# Altium integrated library Xilinx XC18V00.IntLib: 20 symbols (part 1 of 2)
Pins are listed as number, name and electrical type; pins without a type are passive.

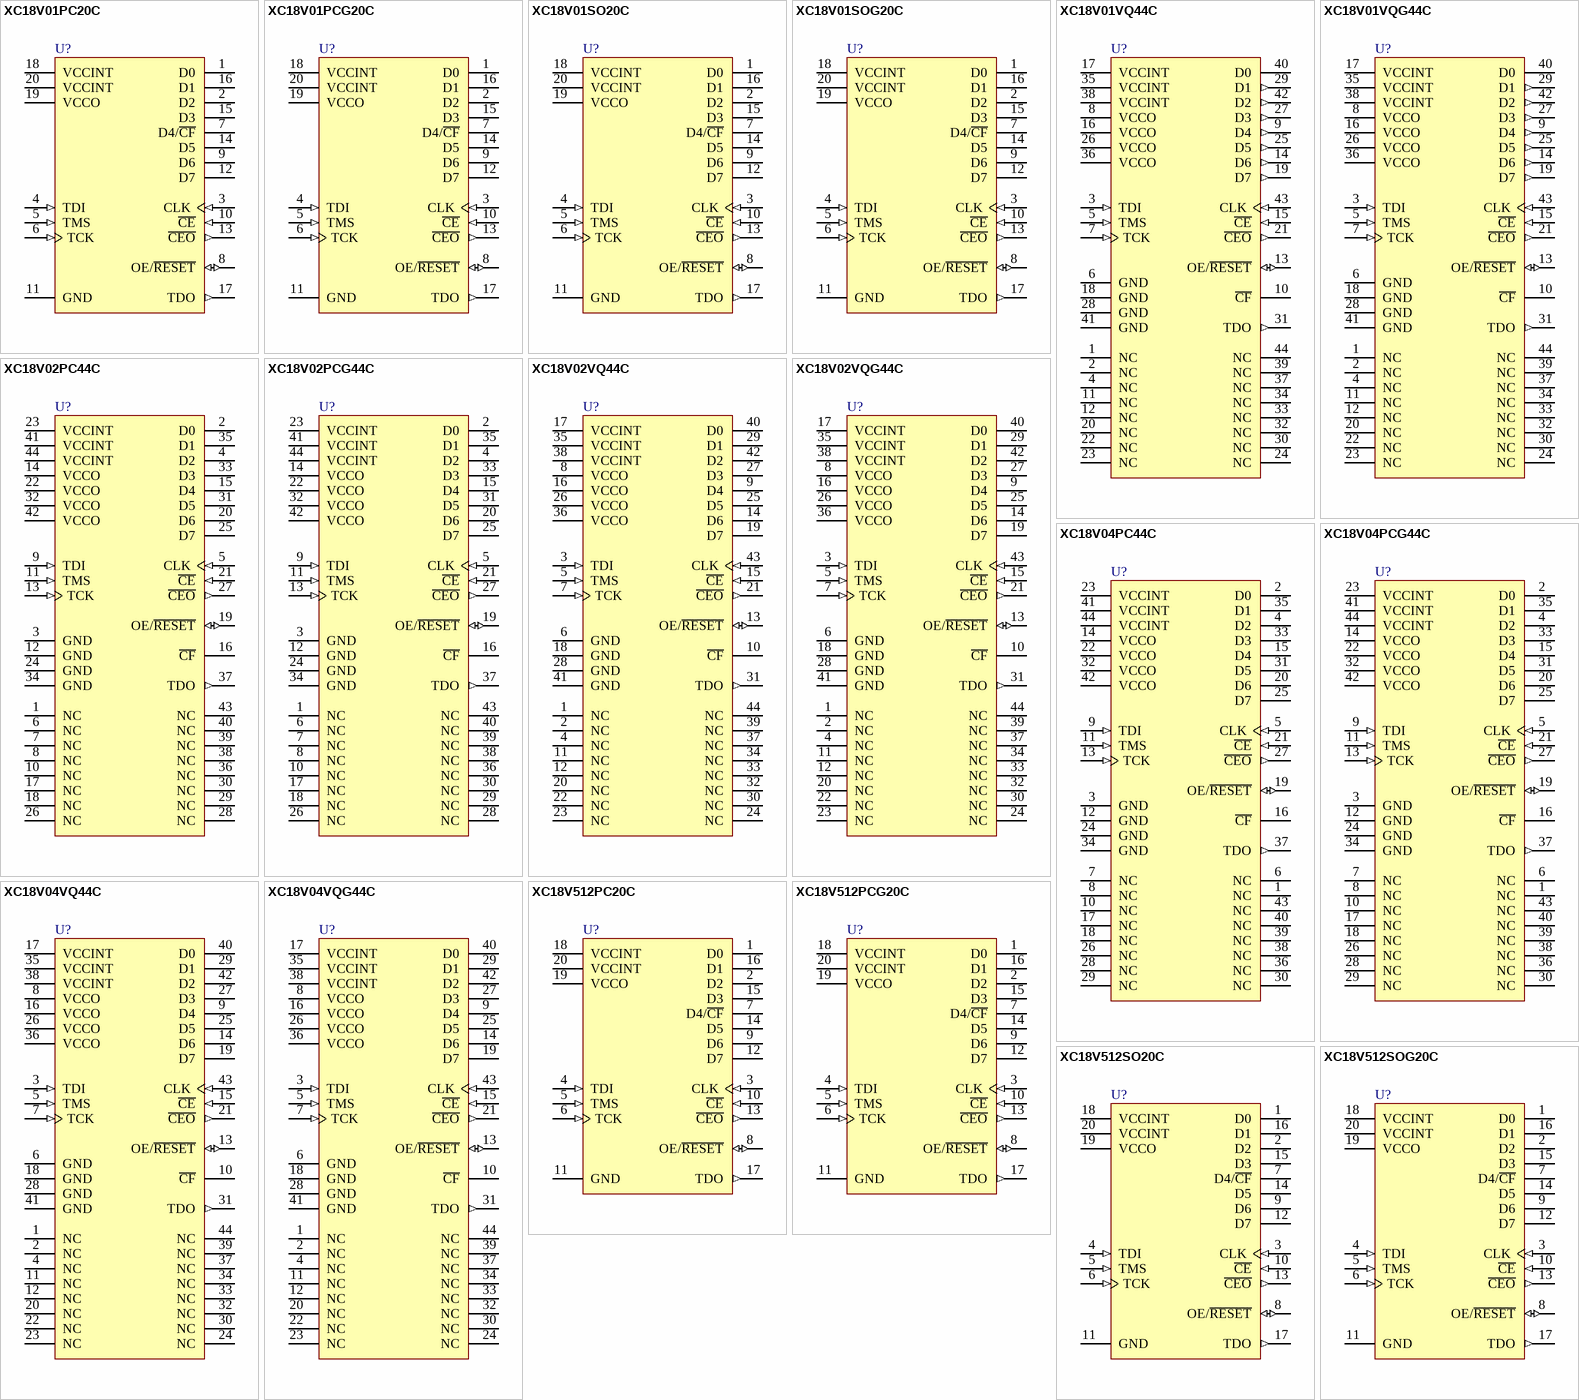
[diagram p0: symbols XC18V01PC20C to XC18V512SOG20C]

## XC18V01PC20C
designator U?
XC18V00 Series, In-System Programmable Configuration 3.3V PROM, 20-Pin PLCC, 1-Megabit, Commercial Grade; Note: For devices with IDCODES 0503x093h VCCINT pin 20 is a no connect (NC) pin.; DatasheetVersion: ver5.2, Jan-2008; PackageVersion: ver1.2, Jun-2004; PackageReference: PC20; PackageDescription: 20-Pin Plastic Leaded Chip Carrier (PC20); Code_JEDEC: MS-047; Code_IPC: PLCC-20; ComponentLink1Description: Manufacturer URL; ComponentLink1URL: http://www.xilinx.com/; ComponentLink2Description: XC18V00 Series Datasheet; ComponentLink2URL: http://www.xilinx.com/support/documentation/data_sheets/ds026.pdf; ComponentLink3Description: PC20 Package Drawing; ComponentLink3URL: http://www.xilinx.com/support/documentation/package_specs/pc20.pdf; ComponentLink4Description: Configuration PROM Documents; ComponentLink4URL: http://www.xilinx.com/support/documentation/configuration_proms.htm
footprint PC20_N (Leaded Chip Carrier, 20-Leads, Body 9x9mm, Pitch 1.27mm, IPC Medium Density)
footprint PC20_L (Leaded Chip Carrier, 20-Leads, Body 9x9mm, Pitch 1.27mm, IPC High Density)
footprint PC20_M (Leaded Chip Carrier, 20-Leads, Body 9x9mm, Pitch 1.27mm, IPC Low Density)
pins: 1 D0 (hiz) "Data Output pin for configuring a Xilinx FPGA in serial mode.", 2 D2 (hiz) "Data Output pin for configuring a Xilinx FPGA in Slave-Parallel/SelectMap mode.", 3 CLK (in) "Configuration Clock Input.", 4 TDI (in) "JTAG Serial Data Input.", 5 TMS (in) "JTAG Mode Select Input.", 6 TCK (in) "JTAG Test Clock Input.", 7 D4/~{CF} (hiz) "Data Output pin / Configuration Pulse.", 8 OE/~{RESET} (io) "Output Enable/Reset (Open-Drain I/O).", 9 D6 (hiz) "Data Output pin for configuring a Xilinx FPGA in Slave-Parallel/SelectMap mode.", 10 ~{CE} (in) "Chip Enable Input.", 11 GND (power) "Ground", 12 D7 (hiz) "Data Output pin for configuring a Xilinx FPGA in Slave-Parallel/SelectMap mode.", 13 ~{CEO} (out) "Chip Enable Output, connects to the CE input of the next PROM in the chain.", 14 D5 (hiz) "Data Output pin for configuring a Xilinx FPGA in Slave-Parallel/SelectMap mode.", 15 D3 (hiz) "Data Output pin for configuring a Xilinx FPGA in Slave-Parallel/SelectMap mode.", 16 D1 (hiz) "Data Output pin for configuring a Xilinx FPGA in Slave-Parallel/SelectMap mode.", 17 TDO (out) "JTAG Serial Data Output.", 18 VCCINT (power) "+3.3V supply for internal logic.", 19 VCCO (power) "+3.3V or +2.5V supply voltage.", 20 VCCINT (power) "+3.3V supply for internal logic."

## XC18V01PCG20C
designator U?
XC18V00 Series, In-System Programmable Configuration 3.3V PROM, 20-Pin PLCC, 1-Megabit, Commercial Grade, Pb-Free; Note: For devices with IDCODES 0503x093h VCCINT pin 20 is a no connect (NC) pin.; DatasheetVersion: ver5.2, Jan-2008; PackageVersion: ver1.2, Jun-2004; PackageReference: PCG20; PackageDescription: 20-Pin Plastic Leaded Chip Carrier (PCG20) - Pb-Free; Code_JEDEC: MS-047; Code_IPC: PLCC-20; ComponentLink1Description: Manufacturer URL; ComponentLink1URL: http://www.xilinx.com/; ComponentLink2Description: XC18V00 Series Datasheet; ComponentLink2URL: http://www.xilinx.com/support/documentation/data_sheets/ds026.pdf; ComponentLink3Description: PCG20 Package Drawing; ComponentLink3URL: http://www.xilinx.com/support/documentation/package_specs/pc20.pdf; ComponentLink4Description: Configuration PROM Documents; ComponentLink4URL: http://www.xilinx.com/support/documentation/configuration_proms.htm
footprint PCG20_N (Leaded Chip Carrier, 20-Leads, Body 9x9mm, Pitch 1.27mm, IPC Medium Density)
footprint PCG20_L (Leaded Chip Carrier, 20-Leads, Body 9x9mm, Pitch 1.27mm, IPC High Density)
footprint PCG20_M (Leaded Chip Carrier, 20-Leads, Body 9x9mm, Pitch 1.27mm, IPC Low Density)
pins: 1 D0 (hiz) "Data Output pin for configuring a Xilinx FPGA in serial mode.", 2 D2 (hiz) "Data Output pin for configuring a Xilinx FPGA in Slave-Parallel/SelectMap mode.", 3 CLK (in) "Configuration Clock Input.", 4 TDI (in) "JTAG Serial Data Input.", 5 TMS (in) "JTAG Mode Select Input.", 6 TCK (in) "JTAG Test Clock Input.", 7 D4/~{CF} (hiz) "Data Output pin / Configuration Pulse.", 8 OE/~{RESET} (io) "Output Enable/Reset (Open-Drain I/O).", 9 D6 (hiz) "Data Output pin for configuring a Xilinx FPGA in Slave-Parallel/SelectMap mode.", 10 ~{CE} (in) "Chip Enable Input.", 11 GND (power) "Ground", 12 D7 (hiz) "Data Output pin for configuring a Xilinx FPGA in Slave-Parallel/SelectMap mode.", 13 ~{CEO} (out) "Chip Enable Output, connects to the CE input of the next PROM in the chain.", 14 D5 (hiz) "Data Output pin for configuring a Xilinx FPGA in Slave-Parallel/SelectMap mode.", 15 D3 (hiz) "Data Output pin for configuring a Xilinx FPGA in Slave-Parallel/SelectMap mode.", 16 D1 (hiz) "Data Output pin for configuring a Xilinx FPGA in Slave-Parallel/SelectMap mode.", 17 TDO (out) "JTAG Serial Data Output.", 18 VCCINT (power) "+3.3V supply for internal logic.", 19 VCCO (power) "+3.3V or +2.5V supply voltage.", 20 VCCINT (power) "+3.3V supply for internal logic."

## XC18V01SO20C
designator U?
XC18V00 Series, In-System Programmable Configuration 3.3V PROM, 20-Pin SOIC, 1-Megabit, Commercial Grade; Note: For devices with IDCODES 0503x093h VCCINT pin 20 is a no connect (NC) pin.; DatasheetVersion: ver5.2, Jan-2008; PackageVersion: ver1.0, Jun-2000; PackageReference: SO20; PackageDescription: 20-Pin Small Outline Package (SO20); Code_JEDEC: MS-013-AC; ComponentLink1Description: Manufacturer URL; ComponentLink1URL: http://www.xilinx.com/; ComponentLink2Description: XC18V00 Series Datasheet; ComponentLink2URL: http://www.xilinx.com/support/documentation/data_sheets/ds026.pdf; ComponentLink3Description: SO20 Package Drawing; ComponentLink3URL: http://www.xilinx.com/support/documentation/package_specs/so20.pdf; ComponentLink4Description: Configuration PROM Documents; ComponentLink4URL: http://www.xilinx.com/support/documentation/configuration_proms.htm
footprint SO20_N (SOIC, 20-Leads, Body 12.8x7.5mm, Pitch 1.27mm, IPC Medium Density)
footprint SO20_L (SOIC, 20-Leads, Body 12.8x7.5mm, Pitch 1.27mm, IPC High Density)
footprint SO20_M (SOIC, 20-Leads, Body 12.8x7.5mm, Pitch 1.27mm, IPC Low Density)
pins: 1 D0 (hiz) "Data Output pin for configuring a Xilinx FPGA in serial mode.", 2 D2 (hiz) "Data Output pin for configuring a Xilinx FPGA in Slave-Parallel/SelectMap mode.", 3 CLK (in) "Configuration Clock Input.", 4 TDI (in) "JTAG Serial Data Input.", 5 TMS (in) "JTAG Mode Select Input.", 6 TCK (in) "JTAG Test Clock Input.", 7 D4/~{CF} (hiz) "Data Output / Configuration Pulse.", 8 OE/~{RESET} (io) "Output Enable/Reset (Open-Drain I/O).", 9 D6 (hiz) "Data Output pin for configuring a Xilinx FPGA in Slave-Parallel/SelectMap mode.", 10 ~{CE} (in) "Chip Enable Input.", 11 GND (power) "Ground", 12 D7 (hiz) "Data Output pin for configuring a Xilinx FPGA in Slave-Parallel/SelectMap mode.", 13 ~{CEO} (out) "Chip Enable Output, connects to the CE input of the next PROM in the chain.", 14 D5 (hiz) "Data Output pin for configuring a Xilinx FPGA in Slave-Parallel/SelectMap mode.", 15 D3 (hiz) "Data Output pin for configuring a Xilinx FPGA in Slave-Parallel/SelectMap mode.", 16 D1 (hiz) "Data Output pin for configuring a Xilinx FPGA in Slave-Parallel/SelectMap mode.", 17 TDO (out) "JTAG Serial Data Output.", 18 VCCINT (power) "+3.3V supply for internal logic.", 19 VCCO (power) "+3.3V or +2.5V supply voltage.", 20 VCCINT (power) "+3.3V supply for internal logic."

## XC18V01SOG20C
designator U?
XC18V00 Series, In-System Programmable Configuration 3.3V PROM, 20-Pin SOIC, 1-Megabit, Commercial Grade, Pb-Free; Note: For devices with IDCODES 0503x093h VCCINT pin 20 is a no connect (NC) pin.; DatasheetVersion: ver5.2, Jan-2008; PackageVersion: ver1.0, Jun-2000; PackageReference: SOG20; PackageDescription: 20-Pin Small Outline Package (SOG20) - Pb-Free; Code_JEDEC: MS-013-AC; ComponentLink1Description: Manufacturer URL; ComponentLink1URL: http://www.xilinx.com/; ComponentLink2Description: XC18V00 Series Datasheet; ComponentLink2URL: http://www.xilinx.com/support/documentation/data_sheets/ds026.pdf; ComponentLink3Description: SOG20 Package Drawing; ComponentLink3URL: http://www.xilinx.com/support/documentation/package_specs/so20.pdf; ComponentLink4Description: Configuration PROM Documents; ComponentLink4URL: http://www.xilinx.com/support/documentation/configuration_proms.htm
footprint SOG20_N (SOIC, 20-Leads, Body 12.8x7.5mm, Pitch 1.27mm, IPC Medium Density)
footprint SOG20_L (SOIC, 20-Leads, Body 12.8x7.5mm, Pitch 1.27mm, IPC High Density)
footprint SOG20_M (SOIC, 20-Leads, Body 12.8x7.5mm, Pitch 1.27mm, IPC Low Density)
pins: 1 D0 (hiz) "Data Output pin for configuring a Xilinx FPGA in serial mode.", 2 D2 (hiz) "Data Output pin for configuring a Xilinx FPGA in Slave-Parallel/SelectMap mode.", 3 CLK (in) "Configuration Clock Input.", 4 TDI (in) "JTAG Serial Data Input.", 5 TMS (in) "JTAG Mode Select Input.", 6 TCK (in) "JTAG Test Clock Input.", 7 D4/~{CF} (hiz) "Data Output / Configuration Pulse.", 8 OE/~{RESET} (io) "Output Enable/Reset (Open-Drain I/O).", 9 D6 (hiz) "Data Output pin for configuring a Xilinx FPGA in Slave-Parallel/SelectMap mode.", 10 ~{CE} (in) "Chip Enable Input.", 11 GND (power) "Ground", 12 D7 (hiz) "Data Output pin for configuring a Xilinx FPGA in Slave-Parallel/SelectMap mode.", 13 ~{CEO} (out) "Chip Enable Output, connects to the CE input of the next PROM in the chain.", 14 D5 (hiz) "Data Output pin for configuring a Xilinx FPGA in Slave-Parallel/SelectMap mode.", 15 D3 (hiz) "Data Output pin for configuring a Xilinx FPGA in Slave-Parallel/SelectMap mode.", 16 D1 (hiz) "Data Output pin for configuring a Xilinx FPGA in Slave-Parallel/SelectMap mode.", 17 TDO (out) "JTAG Serial Data Output.", 18 VCCINT (power) "+3.3V supply for internal logic.", 19 VCCO (power) "+3.3V or +2.5V supply voltage.", 20 VCCINT (power) "+3.3V supply for internal logic."

## XC18V01VQ44C
designator U?
XC18V00 Series, In-System Programmable Configuration 3.3V PROM, 44-Pin VQFP, 1-Megabit, Commercial Grade; Note: For devices with IDCODES 0503x093h VCCINT pin 38 is a no connect (NC) pin.; DatasheetVersion: ver5.2, Jan-2008; PackageVersion: ver1.2, Jun-2004; PackageReference: VQ44; PackageDescription: 44-Pin Very Thin Quad Flat Pack (VQ44); Code_JEDEC: MS-026-ACB; ComponentLink1Description: Manufacturer URL; ComponentLink1URL: http://www.xilinx.com/; ComponentLink2Description: XC18V00 Series Datasheet; ComponentLink2URL: http://www.xilinx.com/support/documentation/data_sheets/ds026.pdf; ComponentLink3Description: VQ44 Package Drawing; ComponentLink3URL: http://www.xilinx.com/support/documentation/package_specs/vq44.pdf; ComponentLink4Description: Configuration PROM Documents; ComponentLink4URL: http://www.xilinx.com/support/documentation/configuration_proms.htm
footprint VQ44_N (Thin QFP, 44-Leads, Body 10x10mm, Pitch 0.8mm, IPC Medium Density)
footprint VQ44_L (Thin QFP, 44-Leads, Body 10x10mm, Pitch 0.8mm, IPC High Density)
footprint VQ44_M (Thin QFP, 44-Leads, Body 10x10mm, Pitch 0.8mm, IPC Low Density)
pins: 1 NC "No Connect", 2 NC "No Connect", 3 TDI (in) "JTAG Serial Data Input.", 4 NC "No Connect", 5 TMS (in) "JTAG Mode Select Input.", 6 GND (power) "Ground", 7 TCK (in) "JTAG Test Clock Input.", 8 VCCO (power) "+3.3V or +2.5V supply voltage.", 9 D4 (out) "Data Output pin for configuring a Xilinx FPGA in Slave-Parallel/SelectMap mode.", 10 ~{CF} (oc) "Configuration Pulse (Open-Drain Output).", 11 NC "No Connect", 12 NC "No Connect", 13 OE/~{RESET} (io) "Output Enable/Reset (Open-Drain I/O).", 14 D6 (out) "Data Output pin for configuring a Xilinx FPGA in Slave-Parallel/SelectMap mode.", 15 ~{CE} (in) "Chip Enable Input.", 16 VCCO (power) "+3.3V or +2.5V supply voltage.", 17 VCCINT (power) "+3.3V supply for internal logic.", 18 GND (power) "Ground", 19 D7 (out) "Data Output pin for configuring a Xilinx FPGA in Slave-Parallel/SelectMap mode.", 20 NC "No Connect", 21 ~{CEO} (out) "Chip Enable Output, connects to the CE input of the next PROM in the chain.", 22 NC "No Connect", 23 NC "No Connect", 24 NC "No Connect", 25 D5 (out) "Data Output pin for configuring a Xilinx FPGA in Slave-Parallel/SelectMap mode.", 26 VCCO (power) "+3.3V or +2.5V supply voltage.", 27 D3 (out) "Data Output pin for configuring a Xilinx FPGA in Slave-Parallel/SelectMap mode.", 28 GND (power) "Ground", 29 D1 (out) "Data Output pin for configuring a Xilinx FPGA in Slave-Parallel/SelectMap mode.", 30 NC "No Connect", 31 TDO (out) "JTAG Serial Data Output.", 32 NC "No Connect", 33 NC "No Connect", 34 NC "No Connect", 35 VCCINT (power) "+3.3V supply for internal logic.", 36 VCCO (power) "+3.3V or +2.5V supply voltage.", 37 NC "No Connect", 38 VCCINT (power) "+3.3V supply for internal logic.", 39 NC "No Connect", 40 D0 (hiz) "Data Output pin for configuring a Xilinx FPGA in serial mode.", 41 GND (power) "Ground", 42 D2 (out) "Data Output pin for configuring a Xilinx FPGA in Slave-Parallel/SelectMap mode.", 43 CLK (in) "Configuration Clock Input.", 44 NC "No Connect"

## XC18V01VQG44C
designator U?
XC18V00 Series, In-System Programmable Configuration 3.3V PROM, 44-Pin VQFP, 1-Megabit, Commercial Grade, Pb-Free; Note: For devices with IDCODES 0503x093h VCCINT pin 38 is a no connect (NC) pin.; DatasheetVersion: ver5.2, Jan-2008; PackageVersion: ver1.2, Jun-2004; PackageReference: VQG44; PackageDescription: 44-Pin Very Thin Quad Flat Pack (VQG44) - Pb-Free; Code_JEDEC: MS-026-ACB; ComponentLink1Description: Manufacturer URL; ComponentLink1URL: http://www.xilinx.com/; ComponentLink2Description: XC18V00 Series Datasheet; ComponentLink2URL: http://www.xilinx.com/support/documentation/data_sheets/ds026.pdf; ComponentLink3Description: VQG44 Package Drawing; ComponentLink3URL: http://www.xilinx.com/support/documentation/package_specs/vq44.pdf; ComponentLink4Description: Configuration PROM Documents; ComponentLink4URL: http://www.xilinx.com/support/documentation/configuration_proms.htm
footprint VQG44_N (Thin QFP, 44-Leads, Body 10x10mm, Pitch 0.8mm, IPC Medium Density)
footprint VQG44_L (Thin QFP, 44-Leads, Body 10x10mm, Pitch 0.8mm, IPC High Density)
footprint VQG44_M (Thin QFP, 44-Leads, Body 10x10mm, Pitch 0.8mm, IPC Low Density)
pins: 1 NC "No Connect", 2 NC "No Connect", 3 TDI (in) "JTAG Serial Data Input.", 4 NC "No Connect", 5 TMS (in) "JTAG Mode Select Input.", 6 GND (power) "Ground", 7 TCK (in) "JTAG Test Clock Input.", 8 VCCO (power) "+3.3V or +2.5V supply voltage.", 9 D4 (out) "Data Output pin for configuring a Xilinx FPGA in Slave-Parallel/SelectMap mode.", 10 ~{CF} (oc) "Configuration Pulse (Open-Drain Output).", 11 NC "No Connect", 12 NC "No Connect", 13 OE/~{RESET} (io) "Output Enable/Reset (Open-Drain I/O).", 14 D6 (out) "Data Output pin for configuring a Xilinx FPGA in Slave-Parallel/SelectMap mode.", 15 ~{CE} (in) "Chip Enable Input.", 16 VCCO (power) "+3.3V or +2.5V supply voltage.", 17 VCCINT (power) "+3.3V supply for internal logic.", 18 GND (power) "Ground", 19 D7 (out) "Data Output pin for configuring a Xilinx FPGA in Slave-Parallel/SelectMap mode.", 20 NC "No Connect", 21 ~{CEO} (out) "Chip Enable Output, connects to the CE input of the next PROM in the chain.", 22 NC "No Connect", 23 NC "No Connect", 24 NC "No Connect", 25 D5 (out) "Data Output pin for configuring a Xilinx FPGA in Slave-Parallel/SelectMap mode.", 26 VCCO (power) "+3.3V or +2.5V supply voltage.", 27 D3 (out) "Data Output pin for configuring a Xilinx FPGA in Slave-Parallel/SelectMap mode.", 28 GND (power) "Ground", 29 D1 (out) "Data Output pin for configuring a Xilinx FPGA in Slave-Parallel/SelectMap mode.", 30 NC "No Connect", 31 TDO (out) "JTAG Serial Data Output.", 32 NC "No Connect", 33 NC "No Connect", 34 NC "No Connect", 35 VCCINT (power) "+3.3V supply for internal logic.", 36 VCCO (power) "+3.3V or +2.5V supply voltage.", 37 NC "No Connect", 38 VCCINT (power) "+3.3V supply for internal logic.", 39 NC "No Connect", 40 D0 (hiz) "Data Output pin for configuring a Xilinx FPGA in serial mode.", 41 GND (power) "Ground", 42 D2 (out) "Data Output pin for configuring a Xilinx FPGA in Slave-Parallel/SelectMap mode.", 43 CLK (in) "Configuration Clock Input.", 44 NC "No Connect"

## XC18V02PC44C
designator U?
XC18V00 Series, In-System Programmable Configuration 3.3V PROM, 44-Pin PLCC, 2-Megabit, Commercial Grade; Note: For devices with IDCODES 0503x093h VCCINT pin 44 is a no connect (NC) pin.; DatasheetVersion: ver5.2, Jan-2008; PackageVersion: ver1.2, Jun-2004; PackageReference: PC44; PackageDescription: 44-Pin Plastic Leaded Chip Carrier (PC44); Code_JEDEC: MS-047; Code_IPC: PLCC-44; ComponentLink1Description: Manufacturer URL; ComponentLink1URL: http://www.xilinx.com/; ComponentLink2Description: XC18V00 Series Datasheet; ComponentLink2URL: http://www.xilinx.com/support/documentation/data_sheets/ds026.pdf; ComponentLink3Description: PC44 Package Drawing; ComponentLink3URL: http://www.xilinx.com/support/documentation/package_specs/pc44.pdf; ComponentLink4Description: Configuration PROM Documents; ComponentLink4URL: http://www.xilinx.com/support/documentation/configuration_proms.htm
footprint PC44_N (Leaded Chip Carrier, 44-Leads, Body 16.6x16.6mm, Pitch 1.27mm, IPC Medium Density)
footprint PC44_L (Leaded Chip Carrier, 44-Leads, Body 16.6x16.6mm, Pitch 1.27mm, IPC High Density)
footprint PC44_M (Leaded Chip Carrier, 44-Leads, Body 16.6x16.6mm, Pitch 1.27mm, IPC Low Density)
pins: 1 NC "No Connect", 2 D0 (hiz) "Data Output pin for configuring a Xilinx FPGA in serial mode.", 3 GND (power) "Ground", 4 D2 (hiz) "Data Output pin for configuring a Xilinx FPGA in Slave-Parallel/SelectMap mode.", 5 CLK (in) "Configuration Clock Input.", 6 NC "No Connect", 7 NC "No Connect", 8 NC "No Connect", 9 TDI (in) "JTAG Serial Data Input.", 10 NC "No Connect", 11 TMS (in) "JTAG Mode Select Input.", 12 GND (power) "Ground", 13 TCK (in) "JTAG Test Clock Input.", 14 VCCO (power) "+3.3V or +2.5V supply voltage.", 15 D4 (hiz) "Data Output pin for configuring a Xilinx FPGA in Slave-Parallel/SelectMap mode.", 16 ~{CF} (oc) "Configuration Pulse (Open-Drain Output).", 17 NC "No Connect", 18 NC "No Connect", 19 OE/~{RESET} (io) "Output Enable/Reset (Open-Drain I/O).", 20 D6 (hiz) "Data Output pin for configuring a Xilinx FPGA in Slave-Parallel/SelectMap mode.", 21 ~{CE} (in) "Chip Enable Input.", 22 VCCO (power) "+3.3V or +2.5V supply voltage.", 23 VCCINT (power) "+3.3V supply for internal logic.", 24 GND (power) "Ground", 25 D7 (hiz) "Data Output pin for configuring a Xilinx FPGA in Slave-Parallel/SelectMap mode.", 26 NC "No Connect", 27 ~{CEO} (out) "Chip Enable Output, connects to the CE input of the next PROM in the chain.", 28 NC "No Connect", 29 NC "No Connect", 30 NC "No Connect", 31 D5 (hiz) "Data Output pin for configuring a Xilinx FPGA in Slave-Parallel/SelectMap mode.", 32 VCCO (power) "+3.3V or +2.5V supply voltage.", 33 D3 (hiz) "Data Output pin for configuring a Xilinx FPGA in Slave-Parallel/SelectMap mode.", 34 GND (power) "Ground", 35 D1 (hiz) "Data Output pin for configuring a Xilinx FPGA in Slave-Parallel/SelectMap mode.", 36 NC "No Connect", 37 TDO (out) "JTAG Serial Data Output.", 38 NC "No Connect", 39 NC "No Connect", 40 NC "No Connect", 41 VCCINT (power) "+3.3V supply for internal logic.", 42 VCCO (power) "+3.3V or +2.5V supply voltage.", 43 NC "No Connect", 44 VCCINT (power) "+3.3V supply for internal logic."

## XC18V02PCG44C
designator U?
XC18V00 Series, In-System Programmable Configuration 3.3V PROM, 44-Pin PLCC, 2-Megabit, Commercial Grade, Pb-Free; Note: For devices with IDCODES 0503x093h VCCINT pin 44 is a no connect (NC) pin.; DatasheetVersion: ver5.2, Jan-2008; PackageVersion: ver1.2, Jun-2004; PackageReference: PCG44; PackageDescription: 44-Pin Plastic Leaded Chip Carrier (PCG44) - Pb-Free; Code_JEDEC: MS-047; Code_IPC: PLCC-44; ComponentLink1Description: Manufacturer URL; ComponentLink1URL: http://www.xilinx.com/; ComponentLink2Description: XC18V00 Series Datasheet; ComponentLink2URL: http://www.xilinx.com/support/documentation/data_sheets/ds026.pdf; ComponentLink3Description: PCG44 Package Drawing; ComponentLink3URL: http://www.xilinx.com/support/documentation/package_specs/pc44.pdf; ComponentLink4Description: Configuration PROM Documents; ComponentLink4URL: http://www.xilinx.com/support/documentation/configuration_proms.htm
footprint PCG44_N (Leaded Chip Carrier, 44-Leads, Body 16.6x16.6mm, Pitch 1.27mm, IPC Medium Density)
footprint PCG44_L (Leaded Chip Carrier, 44-Leads, Body 16.6x16.6mm, Pitch 1.27mm, IPC High Density)
footprint PCG44_M (Leaded Chip Carrier, 44-Leads, Body 16.6x16.6mm, Pitch 1.27mm, IPC Low Density)
pins: 1 NC "No Connect", 2 D0 (hiz) "Data Output pin for configuring a Xilinx FPGA in serial mode.", 3 GND (power) "Ground", 4 D2 (hiz) "Data Output pin for configuring a Xilinx FPGA in Slave-Parallel/SelectMap mode.", 5 CLK (in) "Configuration Clock Input.", 6 NC "No Connect", 7 NC "No Connect", 8 NC "No Connect", 9 TDI (in) "JTAG Serial Data Input.", 10 NC "No Connect", 11 TMS (in) "JTAG Mode Select Input.", 12 GND (power) "Ground", 13 TCK (in) "JTAG Test Clock Input.", 14 VCCO (power) "+3.3V or +2.5V supply voltage.", 15 D4 (hiz) "Data Output pin for configuring a Xilinx FPGA in Slave-Parallel/SelectMap mode.", 16 ~{CF} (oc) "Configuration Pulse (Open-Drain Output).", 17 NC "No Connect", 18 NC "No Connect", 19 OE/~{RESET} (io) "Output Enable/Reset (Open-Drain I/O).", 20 D6 (hiz) "Data Output pin for configuring a Xilinx FPGA in Slave-Parallel/SelectMap mode.", 21 ~{CE} (in) "Chip Enable Input.", 22 VCCO (power) "+3.3V or +2.5V supply voltage.", 23 VCCINT (power) "+3.3V supply for internal logic.", 24 GND (power) "Ground", 25 D7 (hiz) "Data Output pin for configuring a Xilinx FPGA in Slave-Parallel/SelectMap mode.", 26 NC "No Connect", 27 ~{CEO} (out) "Chip Enable Output, connects to the CE input of the next PROM in the chain.", 28 NC "No Connect", 29 NC "No Connect", 30 NC "No Connect", 31 D5 (hiz) "Data Output pin for configuring a Xilinx FPGA in Slave-Parallel/SelectMap mode.", 32 VCCO (power) "+3.3V or +2.5V supply voltage.", 33 D3 (hiz) "Data Output pin for configuring a Xilinx FPGA in Slave-Parallel/SelectMap mode.", 34 GND (power) "Ground", 35 D1 (hiz) "Data Output pin for configuring a Xilinx FPGA in Slave-Parallel/SelectMap mode.", 36 NC "No Connect", 37 TDO (out) "JTAG Serial Data Output.", 38 NC "No Connect", 39 NC "No Connect", 40 NC "No Connect", 41 VCCINT (power) "+3.3V supply for internal logic.", 42 VCCO (power) "+3.3V or +2.5V supply voltage.", 43 NC "No Connect", 44 VCCINT (power) "+3.3V supply for internal logic."

## XC18V02VQ44C
designator U?
XC18V00 Series, In-System Programmable Configuration 3.3V PROM, 44-Pin VQFP, 2-Megabit, Commercial Grade; Note: For devices with IDCODES 0503x093h VCCINT pin 38 is a no connect (NC) pin.; DatasheetVersion: ver5.2, Jan-2008; PackageVersion: ver1.2, Jun-2004; PackageReference: VQ44; PackageDescription: 44-Pin Very Thin Quad Flat Pack (VQ44); Code_JEDEC: MS-026-ACB; ComponentLink1Description: Manufacturer URL; ComponentLink1URL: http://www.xilinx.com/; ComponentLink2Description: XC18V00 Series Datasheet; ComponentLink2URL: http://www.xilinx.com/support/documentation/data_sheets/ds026.pdf; ComponentLink3Description: VQ44 Package Drawing; ComponentLink3URL: http://www.xilinx.com/support/documentation/package_specs/vq44.pdf; ComponentLink4Description: Configuration PROM Documents; ComponentLink4URL: http://www.xilinx.com/support/documentation/configuration_proms.htm
footprint VQ44_N (Thin QFP, 44-Leads, Body 10x10mm, Pitch 0.8mm, IPC Medium Density)
footprint VQ44_L (Thin QFP, 44-Leads, Body 10x10mm, Pitch 0.8mm, IPC High Density)
footprint VQ44_M (Thin QFP, 44-Leads, Body 10x10mm, Pitch 0.8mm, IPC Low Density)
pins: 1 NC "No Connect", 2 NC "No Connect", 3 TDI (in) "JTAG Serial Data Input.", 4 NC "No Connect", 5 TMS (in) "JTAG Mode Select Input.", 6 GND (power) "Ground", 7 TCK (in) "JTAG Test Clock Input.", 8 VCCO (power) "+3.3V or +2.5V supply voltage.", 9 D4 (hiz) "Data Output pin for configuring a Xilinx FPGA in Slave-Parallel/SelectMap mode.", 10 ~{CF} (oc) "Configuration Pulse (Open-Drain Output).", 11 NC "No Connect", 12 NC "No Connect", 13 OE/~{RESET} (io) "Output Enable/Reset (Open-Drain I/O).", 14 D6 (hiz) "Data Output pin for configuring a Xilinx FPGA in Slave-Parallel/SelectMap mode.", 15 ~{CE} (in) "Chip Enable Input.", 16 VCCO (power) "+3.3V or +2.5V supply voltage.", 17 VCCINT (power) "+3.3V supply for internal logic.", 18 GND (power) "Ground", 19 D7 (hiz) "Data Output pin for configuring a Xilinx FPGA in Slave-Parallel/SelectMap mode.", 20 NC "No Connect", 21 ~{CEO} (out) "Chip Enable Output, connects to the CE input of the next PROM in the chain.", 22 NC "No Connect", 23 NC "No Connect", 24 NC "No Connect", 25 D5 (hiz) "Data Output pin for configuring a Xilinx FPGA in Slave-Parallel/SelectMap mode.", 26 VCCO (power) "+3.3V or +2.5V supply voltage.", 27 D3 (hiz) "Data Output pin for configuring a Xilinx FPGA in Slave-Parallel/SelectMap mode.", 28 GND (power) "Ground", 29 D1 (hiz) "Data Output pin for configuring a Xilinx FPGA in Slave-Parallel/SelectMap mode.", 30 NC "No Connect", 31 TDO (out) "JTAG Serial Data Output.", 32 NC "No Connect", 33 NC "No Connect", 34 NC "No Connect", 35 VCCINT (power) "+3.3V supply for internal logic.", 36 VCCO (power) "+3.3V or +2.5V supply voltage.", 37 NC "No Connect", 38 VCCINT (power) "+3.3V supply for internal logic.", 39 NC "No Connect", 40 D0 (hiz) "Data Output pin for configuring a Xilinx FPGA in serial mode.", 41 GND (power) "Ground", 42 D2 (hiz) "Data Output pin for configuring a Xilinx FPGA in Slave-Parallel/SelectMap mode.", 43 CLK (in) "Configuration Clock Input.", 44 NC "No Connect"

## XC18V02VQG44C
designator U?
XC18V00 Series, In-System Programmable Configuration 3.3V PROM, 44-Pin VQFP, 2-Megabit, Commercial Grade, Pb-Free; Note: For devices with IDCODES 0503x093h VCCINT pin 38 is a no connect (NC) pin.; DatasheetVersion: ver5.2, Jan-2008; PackageVersion: ver1.2, Jun-2004; PackageReference: VQG44; PackageDescription: 44-Pin Very Thin Quad Flat Pack (VQG44) - Pb-Free; Code_JEDEC: MS-026-ACB; ComponentLink1Description: Manufacturer URL; ComponentLink1URL: http://www.xilinx.com/; ComponentLink2Description: XC18V00 Series Datasheet; ComponentLink2URL: http://www.xilinx.com/support/documentation/data_sheets/ds026.pdf; ComponentLink3Description: VQG44 Package Drawing; ComponentLink3URL: http://www.xilinx.com/support/documentation/package_specs/vq44.pdf; ComponentLink4Description: Configuration PROM Documents; ComponentLink4URL: http://www.xilinx.com/support/documentation/configuration_proms.htm
footprint VQG44_N (Thin QFP, 44-Leads, Body 10x10mm, Pitch 0.8mm, IPC Medium Density)
footprint VQG44_L (Thin QFP, 44-Leads, Body 10x10mm, Pitch 0.8mm, IPC High Density)
footprint VQG44_M (Thin QFP, 44-Leads, Body 10x10mm, Pitch 0.8mm, IPC Low Density)
pins: 1 NC "No Connect", 2 NC "No Connect", 3 TDI (in) "JTAG Serial Data Input.", 4 NC "No Connect", 5 TMS (in) "JTAG Mode Select Input.", 6 GND (power) "Ground", 7 TCK (in) "JTAG Test Clock Input.", 8 VCCO (power) "+3.3V or +2.5V supply voltage.", 9 D4 (hiz) "Data Output pin for configuring a Xilinx FPGA in Slave-Parallel/SelectMap mode.", 10 ~{CF} (oc) "Configuration Pulse (Open-Drain Output).", 11 NC "No Connect", 12 NC "No Connect", 13 OE/~{RESET} (io) "Output Enable/Reset (Open-Drain I/O).", 14 D6 (hiz) "Data Output pin for configuring a Xilinx FPGA in Slave-Parallel/SelectMap mode.", 15 ~{CE} (in) "Chip Enable Input.", 16 VCCO (power) "+3.3V or +2.5V supply voltage.", 17 VCCINT (power) "+3.3V supply for internal logic.", 18 GND (power) "Ground", 19 D7 (hiz) "Data Output pin for configuring a Xilinx FPGA in Slave-Parallel/SelectMap mode.", 20 NC "No Connect", 21 ~{CEO} (out) "Chip Enable Output, connects to the CE input of the next PROM in the chain.", 22 NC "No Connect", 23 NC "No Connect", 24 NC "No Connect", 25 D5 (hiz) "Data Output pin for configuring a Xilinx FPGA in Slave-Parallel/SelectMap mode.", 26 VCCO (power) "+3.3V or +2.5V supply voltage.", 27 D3 (hiz) "Data Output pin for configuring a Xilinx FPGA in Slave-Parallel/SelectMap mode.", 28 GND (power) "Ground", 29 D1 (hiz) "Data Output pin for configuring a Xilinx FPGA in Slave-Parallel/SelectMap mode.", 30 NC "No Connect", 31 TDO (out) "JTAG Serial Data Output.", 32 NC "No Connect", 33 NC "No Connect", 34 NC "No Connect", 35 VCCINT (power) "+3.3V supply for internal logic.", 36 VCCO (power) "+3.3V or +2.5V supply voltage.", 37 NC "No Connect", 38 VCCINT (power) "+3.3V supply for internal logic.", 39 NC "No Connect", 40 D0 (hiz) "Data Output pin for configuring a Xilinx FPGA in serial mode.", 41 GND (power) "Ground", 42 D2 (hiz) "Data Output pin for configuring a Xilinx FPGA in Slave-Parallel/SelectMap mode.", 43 CLK (in) "Configuration Clock Input.", 44 NC "No Connect"

## XC18V04PC44C
designator U?
XC18V00 Series, In-System Programmable Configuration 3.3V PROM, 44-Pin PLCC, 4-Megabit, Commercial Grade; Note: For devices with IDCODES 0503x093h VCCINT pin 44 is a no connect (NC) pin.; DatasheetVersion: ver5.2, Jan-2008; PackageVersion: ver1.2, Jun-2004; PackageReference: PC44; PackageDescription: 44-Pin Plastic Leaded Chip Carrier (PC44); Code_JEDEC: MS-047; Code_IPC: PLCC-44; ComponentLink1Description: Manufacturer URL; ComponentLink1URL: http://www.xilinx.com/; ComponentLink2Description: XC18V00 Series Datasheet; ComponentLink2URL: http://www.xilinx.com/support/documentation/data_sheets/ds026.pdf; ComponentLink3Description: PC44 Package Drawing; ComponentLink3URL: http://www.xilinx.com/support/documentation/package_specs/pc44.pdf; ComponentLink4Description: Configuration PROM Documents; ComponentLink4URL: http://www.xilinx.com/support/documentation/configuration_proms.htm
footprint PC44_N (Leaded Chip Carrier, 44-Leads, Body 16.6x16.6mm, Pitch 1.27mm, IPC Medium Density)
footprint PC44_L (Leaded Chip Carrier, 44-Leads, Body 16.6x16.6mm, Pitch 1.27mm, IPC High Density)
footprint PC44_M (Leaded Chip Carrier, 44-Leads, Body 16.6x16.6mm, Pitch 1.27mm, IPC Low Density)
pins: 1 NC "No Connect", 2 D0 (hiz) "Data Output pin for configuring a Xilinx FPGA in serial mode.", 3 GND (power) "Ground", 4 D2 (hiz) "Data Output pin for configuring a Xilinx FPGA in Slave-Parallel/SelectMap mode.", 5 CLK (in) "Configuration Clock Input.", 6 NC "No Connect", 7 NC "No Connect", 8 NC "No Connect", 9 TDI (in) "JTAG Serial Data Input.", 10 NC "No Connect", 11 TMS (in) "JTAG Mode Select Input.", 12 GND (power) "Ground", 13 TCK (in) "JTAG Test Clock Input.", 14 VCCO (power) "+3.3V or +2.5V supply voltage.", 15 D4 (hiz) "Data Output pin for configuring a Xilinx FPGA in Slave-Parallel/SelectMap mode.", 16 ~{CF} (oc) "Configuration Pulse (Open-Drain Output).", 17 NC "No Connect", 18 NC "No Connect", 19 OE/~{RESET} (io) "Output Enable/Reset (Open-Drain I/O).", 20 D6 (hiz) "Data Output pin for configuring a Xilinx FPGA in Slave-Parallel/SelectMap mode.", 21 ~{CE} (in) "Chip Enable Input.", 22 VCCO (power) "+3.3V or +2.5V supply voltage.", 23 VCCINT (power) "+3.3V supply for internal logic.", 24 GND (power) "Ground", 25 D7 (hiz) "Data Output pin for configuring a Xilinx FPGA in Slave-Parallel/SelectMap mode.", 26 NC "No Connect", 27 ~{CEO} (out) "Chip Enable Output, connects to the CE input of the next PROM in the chain.", 28 NC "No Connect", 29 NC "No Connect", 30 NC "No Connect", 31 D5 (hiz) "Data Output pin for configuring a Xilinx FPGA in Slave-Parallel/SelectMap mode.", 32 VCCO (power) "+3.3V or +2.5V supply voltage.", 33 D3 (hiz) "Data Output pin for configuring a Xilinx FPGA in Slave-Parallel/SelectMap mode.", 34 GND (power) "Ground", 35 D1 (hiz) "Data Output pin for configuring a Xilinx FPGA in Slave-Parallel/SelectMap mode.", 36 NC "No Connect", 37 TDO (out) "JTAG Serial Data Output.", 38 NC "No Connect", 39 NC "No Connect", 40 NC "No Connect", 41 VCCINT (power) "+3.3V supply for internal logic.", 42 VCCO (power) "+3.3V or +2.5V supply voltage.", 43 NC "No Connect", 44 VCCINT (power) "+3.3V supply for internal logic."

## XC18V04PCG44C
designator U?
XC18V00 Series, In-System Programmable Configuration 3.3V PROM, 44-Pin PLCC, 4-Megabit, Commercial Grade, Pb-Free; Note: For devices with IDCODES 0503x093h VCCINT pin 44 is a no connect (NC) pin.; DatasheetVersion: ver5.2, Jan-2008; PackageVersion: ver1.2, Jun-2004; PackageReference: PCG44; PackageDescription: 44-Pin Plastic Leaded Chip Carrier (PCG44) - Pb-Free; Code_JEDEC: MS-047; Code_IPC: PLCC-44; ComponentLink1Description: Manufacturer URL; ComponentLink1URL: http://www.xilinx.com/; ComponentLink2Description: XC18V00 Series Datasheet; ComponentLink2URL: http://www.xilinx.com/support/documentation/data_sheets/ds026.pdf; ComponentLink3Description: PCG44 Package Drawing; ComponentLink3URL: http://www.xilinx.com/support/documentation/package_specs/pc44.pdf; ComponentLink4Description: Configuration PROM Documents; ComponentLink4URL: http://www.xilinx.com/support/documentation/configuration_proms.htm
footprint PCG44_N (Leaded Chip Carrier, 44-Leads, Body 16.6x16.6mm, Pitch 1.27mm, IPC Medium Density)
footprint PCG44_L (Leaded Chip Carrier, 44-Leads, Body 16.6x16.6mm, Pitch 1.27mm, IPC High Density)
footprint PCG44_M (Leaded Chip Carrier, 44-Leads, Body 16.6x16.6mm, Pitch 1.27mm, IPC Low Density)
pins: 1 NC "No Connect", 2 D0 (hiz) "Data Output pin for configuring a Xilinx FPGA in serial mode.", 3 GND (power) "Ground", 4 D2 (hiz) "Data Output pin for configuring a Xilinx FPGA in Slave-Parallel/SelectMap mode.", 5 CLK (in) "Configuration Clock Input.", 6 NC "No Connect", 7 NC "No Connect", 8 NC "No Connect", 9 TDI (in) "JTAG Serial Data Input.", 10 NC "No Connect", 11 TMS (in) "JTAG Mode Select Input.", 12 GND (power) "Ground", 13 TCK (in) "JTAG Test Clock Input.", 14 VCCO (power) "+3.3V or +2.5V supply voltage.", 15 D4 (hiz) "Data Output pin for configuring a Xilinx FPGA in Slave-Parallel/SelectMap mode.", 16 ~{CF} (oc) "Configuration Pulse (Open-Drain Output).", 17 NC "No Connect", 18 NC "No Connect", 19 OE/~{RESET} (io) "Output Enable/Reset (Open-Drain I/O).", 20 D6 (hiz) "Data Output pin for configuring a Xilinx FPGA in Slave-Parallel/SelectMap mode.", 21 ~{CE} (in) "Chip Enable Input.", 22 VCCO (power) "+3.3V or +2.5V supply voltage.", 23 VCCINT (power) "+3.3V supply for internal logic.", 24 GND (power) "Ground", 25 D7 (hiz) "Data Output pin for configuring a Xilinx FPGA in Slave-Parallel/SelectMap mode.", 26 NC "No Connect", 27 ~{CEO} (out) "Chip Enable Output, connects to the CE input of the next PROM in the chain.", 28 NC "No Connect", 29 NC "No Connect", 30 NC "No Connect", 31 D5 (hiz) "Data Output pin for configuring a Xilinx FPGA in Slave-Parallel/SelectMap mode.", 32 VCCO (power) "+3.3V or +2.5V supply voltage.", 33 D3 (hiz) "Data Output pin for configuring a Xilinx FPGA in Slave-Parallel/SelectMap mode.", 34 GND (power) "Ground", 35 D1 (hiz) "Data Output pin for configuring a Xilinx FPGA in Slave-Parallel/SelectMap mode.", 36 NC "No Connect", 37 TDO (out) "JTAG Serial Data Output.", 38 NC "No Connect", 39 NC "No Connect", 40 NC "No Connect", 41 VCCINT (power) "+3.3V supply for internal logic.", 42 VCCO (power) "+3.3V or +2.5V supply voltage.", 43 NC "No Connect", 44 VCCINT (power) "+3.3V supply for internal logic."

## XC18V04VQ44C
designator U?
XC18V00 Series, In-System Programmable Configuration 3.3V PROM, 44-Pin VQFP, 4-Megabit, Commercial Grade; Note: For devices with IDCODES 0503x093h VCCINT pin 38 is a no connect (NC) pin.; DatasheetVersion: ver5.2, Jan-2008; PackageVersion: ver1.2, Jun-2004; PackageReference: VQ44; PackageDescription: 44-Pin Very Thin Quad Flat Pack (VQ44); Code_JEDEC: MS-026-ACB; ComponentLink1Description: Manufacturer URL; ComponentLink1URL: http://www.xilinx.com/; ComponentLink2Description: XC18V00 Series Datasheet; ComponentLink2URL: http://www.xilinx.com/support/documentation/data_sheets/ds026.pdf; ComponentLink3Description: VQ44 Package Drawing; ComponentLink3URL: http://www.xilinx.com/support/documentation/package_specs/vq44.pdf; ComponentLink4Description: Configuration PROM Documents; ComponentLink4URL: http://www.xilinx.com/support/documentation/configuration_proms.htm
footprint VQ44_N (Thin QFP, 44-Leads, Body 10x10mm, Pitch 0.8mm, IPC Medium Density)
footprint VQ44_L (Thin QFP, 44-Leads, Body 10x10mm, Pitch 0.8mm, IPC High Density)
footprint VQ44_M (Thin QFP, 44-Leads, Body 10x10mm, Pitch 0.8mm, IPC Low Density)
pins: 1 NC "No Connect", 2 NC "No Connect", 3 TDI (in) "JTAG Serial Data Input.", 4 NC "No Connect", 5 TMS (in) "JTAG Mode Select Input.", 6 GND (power) "Ground", 7 TCK (in) "JTAG Test Clock Input.", 8 VCCO (power) "+3.3V or +2.5V supply voltage.", 9 D4 (hiz) "Data Output pin for configuring a Xilinx FPGA in Slave-Parallel/SelectMap mode.", 10 ~{CF} (oc) "Configuration Pulse (Open-Drain Output).", 11 NC "No Connect", 12 NC "No Connect", 13 OE/~{RESET} (io) "Output Enable/Reset (Open-Drain I/O).", 14 D6 (hiz) "Data Output pin for configuring a Xilinx FPGA in Slave-Parallel/SelectMap mode.", 15 ~{CE} (in) "Chip Enable Input.", 16 VCCO (power) "+3.3V or +2.5V supply voltage.", 17 VCCINT (power) "+3.3V supply for internal logic.", 18 GND (power) "Ground", 19 D7 (hiz) "Data Output pin for configuring a Xilinx FPGA in Slave-Parallel/SelectMap mode.", 20 NC "No Connect", 21 ~{CEO} (out) "Chip Enable Output, connects to the CE input of the next PROM in the chain.", 22 NC "No Connect", 23 NC "No Connect", 24 NC "No Connect", 25 D5 (hiz) "Data Output pin for configuring a Xilinx FPGA in Slave-Parallel/SelectMap mode.", 26 VCCO (power) "+3.3V or +2.5V supply voltage.", 27 D3 (hiz) "Data Output pin for configuring a Xilinx FPGA in Slave-Parallel/SelectMap mode.", 28 GND (power) "Ground", 29 D1 (hiz) "Data Output pin for configuring a Xilinx FPGA in Slave-Parallel/SelectMap mode.", 30 NC "No Connect", 31 TDO (out) "JTAG Serial Data Output.", 32 NC "No Connect", 33 NC "No Connect", 34 NC "No Connect", 35 VCCINT (power) "+3.3V supply for internal logic.", 36 VCCO (power) "+3.3V or +2.5V supply voltage.", 37 NC "No Connect", 38 VCCINT (power) "+3.3V supply for internal logic.", 39 NC "No Connect", 40 D0 (hiz) "Data Output pin for configuring a Xilinx FPGA in serial mode.", 41 GND (power) "Ground", 42 D2 (hiz) "Data Output pin for configuring a Xilinx FPGA in Slave-Parallel/SelectMap mode.", 43 CLK (in) "Configuration Clock Input.", 44 NC "No Connect"

## XC18V04VQG44C
designator U?
XC18V00 Series, In-System Programmable Configuration 3.3V PROM, 44-Pin VQFP, 4-Megabit, Commercial Grade, Pb-Free; Note: For devices with IDCODES 0503x093h VCCINT pin 38 is a no connect (NC) pin.; DatasheetVersion: ver5.2, Jan-2008; PackageVersion: ver1.2, Jun-2004; PackageReference: VQG44; PackageDescription: 44-Pin Very Thin Quad Flat Pack (VQG44) - Pb-Free; Code_JEDEC: MS-026-ACB; ComponentLink1Description: Manufacturer URL; ComponentLink1URL: http://www.xilinx.com/; ComponentLink2Description: XC18V00 Series Datasheet; ComponentLink2URL: http://www.xilinx.com/support/documentation/data_sheets/ds026.pdf; ComponentLink3Description: VQG44 Package Drawing; ComponentLink3URL: http://www.xilinx.com/support/documentation/package_specs/vq44.pdf; ComponentLink4Description: Configuration PROM Documents; ComponentLink4URL: http://www.xilinx.com/support/documentation/configuration_proms.htm
footprint VQG44_N (Thin QFP, 44-Leads, Body 10x10mm, Pitch 0.8mm, IPC Medium Density)
footprint VQG44_L (Thin QFP, 44-Leads, Body 10x10mm, Pitch 0.8mm, IPC High Density)
footprint VQG44_M (Thin QFP, 44-Leads, Body 10x10mm, Pitch 0.8mm, IPC Low Density)
pins: 1 NC "No Connect", 2 NC "No Connect", 3 TDI (in) "JTAG Serial Data Input.", 4 NC "No Connect", 5 TMS (in) "JTAG Mode Select Input.", 6 GND (power) "Ground", 7 TCK (in) "JTAG Test Clock Input.", 8 VCCO (power) "+3.3V or +2.5V supply voltage.", 9 D4 (hiz) "Data Output pin for configuring a Xilinx FPGA in Slave-Parallel/SelectMap mode.", 10 ~{CF} (oc) "Configuration Pulse (Open-Drain Output).", 11 NC "No Connect", 12 NC "No Connect", 13 OE/~{RESET} (io) "Output Enable/Reset (Open-Drain I/O).", 14 D6 (hiz) "Data Output pin for configuring a Xilinx FPGA in Slave-Parallel/SelectMap mode.", 15 ~{CE} (in) "Chip Enable Input.", 16 VCCO (power) "+3.3V or +2.5V supply voltage.", 17 VCCINT (power) "+3.3V supply for internal logic.", 18 GND (power) "Ground", 19 D7 (hiz) "Data Output pin for configuring a Xilinx FPGA in Slave-Parallel/SelectMap mode.", 20 NC "No Connect", 21 ~{CEO} (out) "Chip Enable Output, connects to the CE input of the next PROM in the chain.", 22 NC "No Connect", 23 NC "No Connect", 24 NC "No Connect", 25 D5 (hiz) "Data Output pin for configuring a Xilinx FPGA in Slave-Parallel/SelectMap mode.", 26 VCCO (power) "+3.3V or +2.5V supply voltage.", 27 D3 (hiz) "Data Output pin for configuring a Xilinx FPGA in Slave-Parallel/SelectMap mode.", 28 GND (power) "Ground", 29 D1 (hiz) "Data Output pin for configuring a Xilinx FPGA in Slave-Parallel/SelectMap mode.", 30 NC "No Connect", 31 TDO (out) "JTAG Serial Data Output.", 32 NC "No Connect", 33 NC "No Connect", 34 NC "No Connect", 35 VCCINT (power) "+3.3V supply for internal logic.", 36 VCCO (power) "+3.3V or +2.5V supply voltage.", 37 NC "No Connect", 38 VCCINT (power) "+3.3V supply for internal logic.", 39 NC "No Connect", 40 D0 (hiz) "Data Output pin for configuring a Xilinx FPGA in serial mode.", 41 GND (power) "Ground", 42 D2 (hiz) "Data Output pin for configuring a Xilinx FPGA in Slave-Parallel/SelectMap mode.", 43 CLK (in) "Configuration Clock Input.", 44 NC "No Connect"

## XC18V512PC20C
designator U?
XC18V00 Series, In-System Programmable Configuration 3.3V PROM, 20-Pin PLCC, 512-Kilobit, Commercial Grade; Note: For devices with IDCODES 0503x093h VCCINT pin 20 is a no connect (NC) pin.; DatasheetVersion: ver5.2, Jan-2008; PackageVersion: ver1.2, Jun-2004; PackageReference: PC20; PackageDescription: 20-Pin Plastic Leaded Chip Carrier (PC20); Code_JEDEC: MS-047; Code_IPC: PLCC-20; ComponentLink1Description: Manufacturer URL; ComponentLink1URL: http://www.xilinx.com/; ComponentLink2Description: XC18V00 Series Datasheet; ComponentLink2URL: http://www.xilinx.com/support/documentation/data_sheets/ds026.pdf; ComponentLink3Description: PC20 Package Drawing; ComponentLink3URL: http://www.xilinx.com/support/documentation/package_specs/pc20.pdf; ComponentLink4Description: Configuration PROM Documents; ComponentLink4URL: http://www.xilinx.com/support/documentation/configuration_proms.htm
footprint PC20_N (Leaded Chip Carrier, 20-Leads, Body 9x9mm, Pitch 1.27mm, IPC Medium Density)
footprint PC20_L (Leaded Chip Carrier, 20-Leads, Body 9x9mm, Pitch 1.27mm, IPC High Density)
footprint PC20_M (Leaded Chip Carrier, 20-Leads, Body 9x9mm, Pitch 1.27mm, IPC Low Density)
pins: 1 D0 (hiz) "Data Output pin for configuring a Xilinx FPGA in serial mode.", 2 D2 (hiz) "Data Output pin for configuring a Xilinx FPGA in Slave-Parallel/SelectMap mode.", 3 CLK (in) "Configuration Clock Input.", 4 TDI (in) "JTAG Serial Data Input.", 5 TMS (in) "JTAG Mode Select Input.", 6 TCK (in) "JTAG Test Clock Input.", 7 D4/~{CF} (hiz) "Data Output / Configuration Pulse.", 8 OE/~{RESET} (io) "Output Enable/Reset (Open-Drain I/O).", 9 D6 (hiz) "Data Output pin for configuring a Xilinx FPGA in Slave-Parallel/SelectMap mode.", 10 ~{CE} (in) "Chip Enable Input.", 11 GND (power) "Ground", 12 D7 (hiz) "Data Output pin for configuring a Xilinx FPGA in Slave-Parallel/SelectMap mode.", 13 ~{CEO} (out) "Chip Enable Output, connects to the CE input of the next PROM in the chain.", 14 D5 (hiz) "Data Output pin for configuring a Xilinx FPGA in Slave-Parallel/SelectMap mode.", 15 D3 (hiz) "Data Output pin for configuring a Xilinx FPGA in Slave-Parallel/SelectMap mode.", 16 D1 (hiz) "Data Output pin for configuring a Xilinx FPGA in Slave-Parallel/SelectMap mode.", 17 TDO (out) "JTAG Serial Data Output.", 18 VCCINT (power) "+3.3V supply for internal logic.", 19 VCCO (power) "+3.3V or +2.5V supply voltage.", 20 VCCINT (power) "+3.3V supply for internal logic."

## XC18V512PCG20C
designator U?
XC18V00 Series, In-System Programmable Configuration 3.3V PROM, 20-Pin PLCC, 512-Kilobit, Commercial Grade, Pb-Free; Note: For devices with IDCODES 0503x093h VCCINT pin 20 is a no connect (NC) pin.; DatasheetVersion: ver5.2, Jan-2008; PackageVersion: ver1.2, Jun-2004; PackageReference: PCG20; PackageDescription: 20-Pin Plastic Leaded Chip Carrier (PCG20) - Pb-Free; Code_JEDEC: MS-047; Code_IPC: PLCC-20; ComponentLink1Description: Manufacturer URL; ComponentLink1URL: http://www.xilinx.com/; ComponentLink2Description: XC18V00 Series Datasheet; ComponentLink2URL: http://www.xilinx.com/support/documentation/data_sheets/ds026.pdf; ComponentLink3Description: PCG20 Package Drawing; ComponentLink3URL: http://www.xilinx.com/support/documentation/package_specs/pc20.pdf; ComponentLink4Description: Configuration PROM Documents; ComponentLink4URL: http://www.xilinx.com/support/documentation/configuration_proms.htm
footprint PCG20_N (Leaded Chip Carrier, 20-Leads, Body 9x9mm, Pitch 1.27mm, IPC Medium Density)
footprint PCG20_L (Leaded Chip Carrier, 20-Leads, Body 9x9mm, Pitch 1.27mm, IPC High Density)
footprint PCG20_M (Leaded Chip Carrier, 20-Leads, Body 9x9mm, Pitch 1.27mm, IPC Low Density)
pins: 1 D0 (hiz) "Data Output pin for configuring a Xilinx FPGA in serial mode.", 2 D2 (hiz) "Data Output pin for configuring a Xilinx FPGA in Slave-Parallel/SelectMap mode.", 3 CLK (in) "Configuration Clock Input.", 4 TDI (in) "JTAG Serial Data Input.", 5 TMS (in) "JTAG Mode Select Input.", 6 TCK (in) "JTAG Test Clock Input.", 7 D4/~{CF} (hiz) "Data Output / Configuration Pulse.", 8 OE/~{RESET} (io) "Output Enable/Reset (Open-Drain I/O).", 9 D6 (hiz) "Data Output pin for configuring a Xilinx FPGA in Slave-Parallel/SelectMap mode.", 10 ~{CE} (in) "Chip Enable Input.", 11 GND (power) "Ground", 12 D7 (hiz) "Data Output pin for configuring a Xilinx FPGA in Slave-Parallel/SelectMap mode.", 13 ~{CEO} (out) "Chip Enable Output, connects to the CE input of the next PROM in the chain.", 14 D5 (hiz) "Data Output pin for configuring a Xilinx FPGA in Slave-Parallel/SelectMap mode.", 15 D3 (hiz) "Data Output pin for configuring a Xilinx FPGA in Slave-Parallel/SelectMap mode.", 16 D1 (hiz) "Data Output pin for configuring a Xilinx FPGA in Slave-Parallel/SelectMap mode.", 17 TDO (out) "JTAG Serial Data Output.", 18 VCCINT (power) "+3.3V supply for internal logic.", 19 VCCO (power) "+3.3V or +2.5V supply voltage.", 20 VCCINT (power) "+3.3V supply for internal logic."

## XC18V512SO20C
designator U?
XC18V00 Series, In-System Programmable Configuration 3.3V PROM, 20-Pin SOIC, 512-Kilobit, Commercial Grade; Note: For devices with IDCODES 0503x093h VCCINT pin 20 is a no connect (NC) pin.; DatasheetVersion: ver5.2, Jan-2008; PackageVersion: ver1.0, Jun-2000; PackageReference: SO20; PackageDescription: 20-Pin Small Outline Package (SO20); Code_JEDEC: MS-013-AC; ComponentLink1Description: Manufacturer URL; ComponentLink1URL: http://www.xilinx.com/; ComponentLink2Description: XC18V00 Series Datasheet; ComponentLink2URL: http://www.xilinx.com/support/documentation/data_sheets/ds026.pdf; ComponentLink3Description: SO20 Package Drawing; ComponentLink3URL: http://www.xilinx.com/support/documentation/package_specs/so20.pdf; ComponentLink4Description: Configuration PROM Documents; ComponentLink4URL: http://www.xilinx.com/support/documentation/configuration_proms.htm
footprint SO20_N (SOIC, 20-Leads, Body 12.8x7.5mm, Pitch 1.27mm, IPC Medium Density)
footprint SO20_L (SOIC, 20-Leads, Body 12.8x7.5mm, Pitch 1.27mm, IPC High Density)
footprint SO20_M (SOIC, 20-Leads, Body 12.8x7.5mm, Pitch 1.27mm, IPC Low Density)
pins: 1 D0 (hiz) "Data Output pin for configuring a Xilinx FPGA in serial mode.", 2 D2 (hiz) "Data Output pin for configuring a Xilinx FPGA in Slave-Parallel/SelectMap mode.", 3 CLK (in) "Configuration Clock Input.", 4 TDI (in) "JTAG Serial Data Input.", 5 TMS (in) "JTAG Mode Select Input.", 6 TCK (in) "JTAG Test Clock Input.", 7 D4/~{CF} (hiz) "Data Output / Configuration Pulse .", 8 OE/~{RESET} (io) "Output Enable/Reset (Open-Drain I/O).", 9 D6 (hiz) "Data Output pin for configuring a Xilinx FPGA in Slave-Parallel/SelectMap mode.", 10 ~{CE} (in) "Chip Enable Input.", 11 GND (power) "Ground", 12 D7 (hiz) "Data Output pin for configuring a Xilinx FPGA in Slave-Parallel/SelectMap mode.", 13 ~{CEO} (out) "Chip Enable Output, connects to the CE input of the next PROM in the chain.", 14 D5 (hiz) "Data Output pin for configuring a Xilinx FPGA in Slave-Parallel/SelectMap mode.", 15 D3 (hiz) "Data Output pin for configuring a Xilinx FPGA in Slave-Parallel/SelectMap mode.", 16 D1 (hiz) "Data Output pin for configuring a Xilinx FPGA in Slave-Parallel/SelectMap mode.", 17 TDO (out) "JTAG Serial Data Output.", 18 VCCINT (power) "+3.3V supply for internal logic.", 19 VCCO (power) "+3.3V or +2.5V supply voltage.", 20 VCCINT (power) "+3.3V supply for internal logic."